# EAGLE library part CA3280 (library ota)
Dual OTA
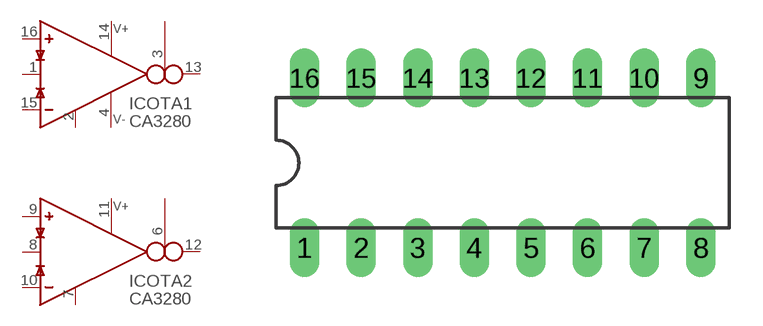
[diagram p8: symbol with the pads of DIL16; footprint DIL16]

Designator prefix IC; gates OTA1=OTA_3280 OTA2=OTA_3280 SUPPLY1=OTA_SUPPLY SUPPLY2=V+

## CA3280E  [DIL16]
1  OTA1:I_DIODE  in
2  OTA1:NODE_X  in
3  OTA1:I_BIAS  in
4  SUPPLY1:V-  sup
6  OTA2:I_BIAS  in
7  OTA2:NODE_X  in
8  OTA2:I_DIODE  in
9  OTA2:IN_P  in
10  OTA2:IN_N  in
11  SUPPLY2:V+  sup
12  OTA2:OUT  out
13  OTA1:OUT  out
14  SUPPLY1:V+  sup
15  OTA1:IN_N  in
16  OTA1:IN_P  in

## Footprint DIL16 (pad centres in mm)
Dual In Line Package
drill 0.813 long: 1 -8.89,-3.81; 2 -6.35,-3.81; 3 -3.81,-3.81; 4 -1.27,-3.81; 5 1.27,-3.81; 6 3.81,-3.81; 7 6.35,-3.81; 8 8.89,-3.81; 9 8.89,3.81; 10 6.35,3.81; 11 3.81,3.81; 12 1.27,3.81; 13 -1.27,3.81; 14 -3.81,3.81; 15 -6.35,3.81; 16 -8.89,3.81